# EAGLE library part TMP100MDBVREP (library RPiAutonomousCar)
DIGITAL TEMPERATURE SENSOR WITH I2C INTERFACE
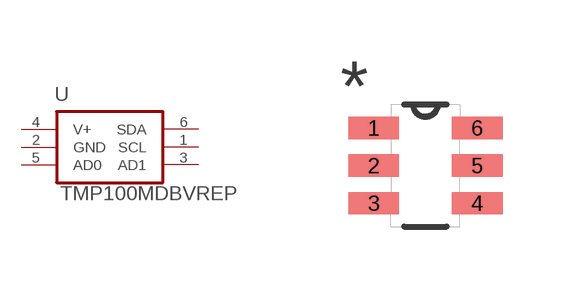
[diagram p4: symbol with the pads of SOT95P280X145-6N; footprint SOT95P280X145-6N]

Designator prefix U

## TMP100MDBVREP (MPN: TMP100MDBVREP; OC_FARNELL: 1715202; OC_NEWARK: 46M1069; PACKAGE: SOT-23-6; SUPPLIER: Texas Instruments)  [SOT95P280X145-6N]
1  SCL  in
2  GND  pas
3  AD1  in
4  V+  pwr
5  AD0  in
6  SDA  out

## Footprint SOT95P280X145-6N (pad centres in mm)
smd 1.27 x 0.559: 1 -1.295,0.94; 2 -1.295,0; 3 -1.295,-0.94; 4 1.295,-0.94; 5 1.295,0; 6 1.295,0.94